# Altium footprint library PCB Footprints.PcbLib: 316 footprints (part 20 of 21)
Each footprint in its own frame and in the unit in brackets; x right, y up, seen from the top. Pads: shape width x height; smd on the part's side, far side on the other; paste and mask are expansions set on the pad; w line width, h text height; cw(c..) or ccw(c..) is an arc to the next point about the centre after c.
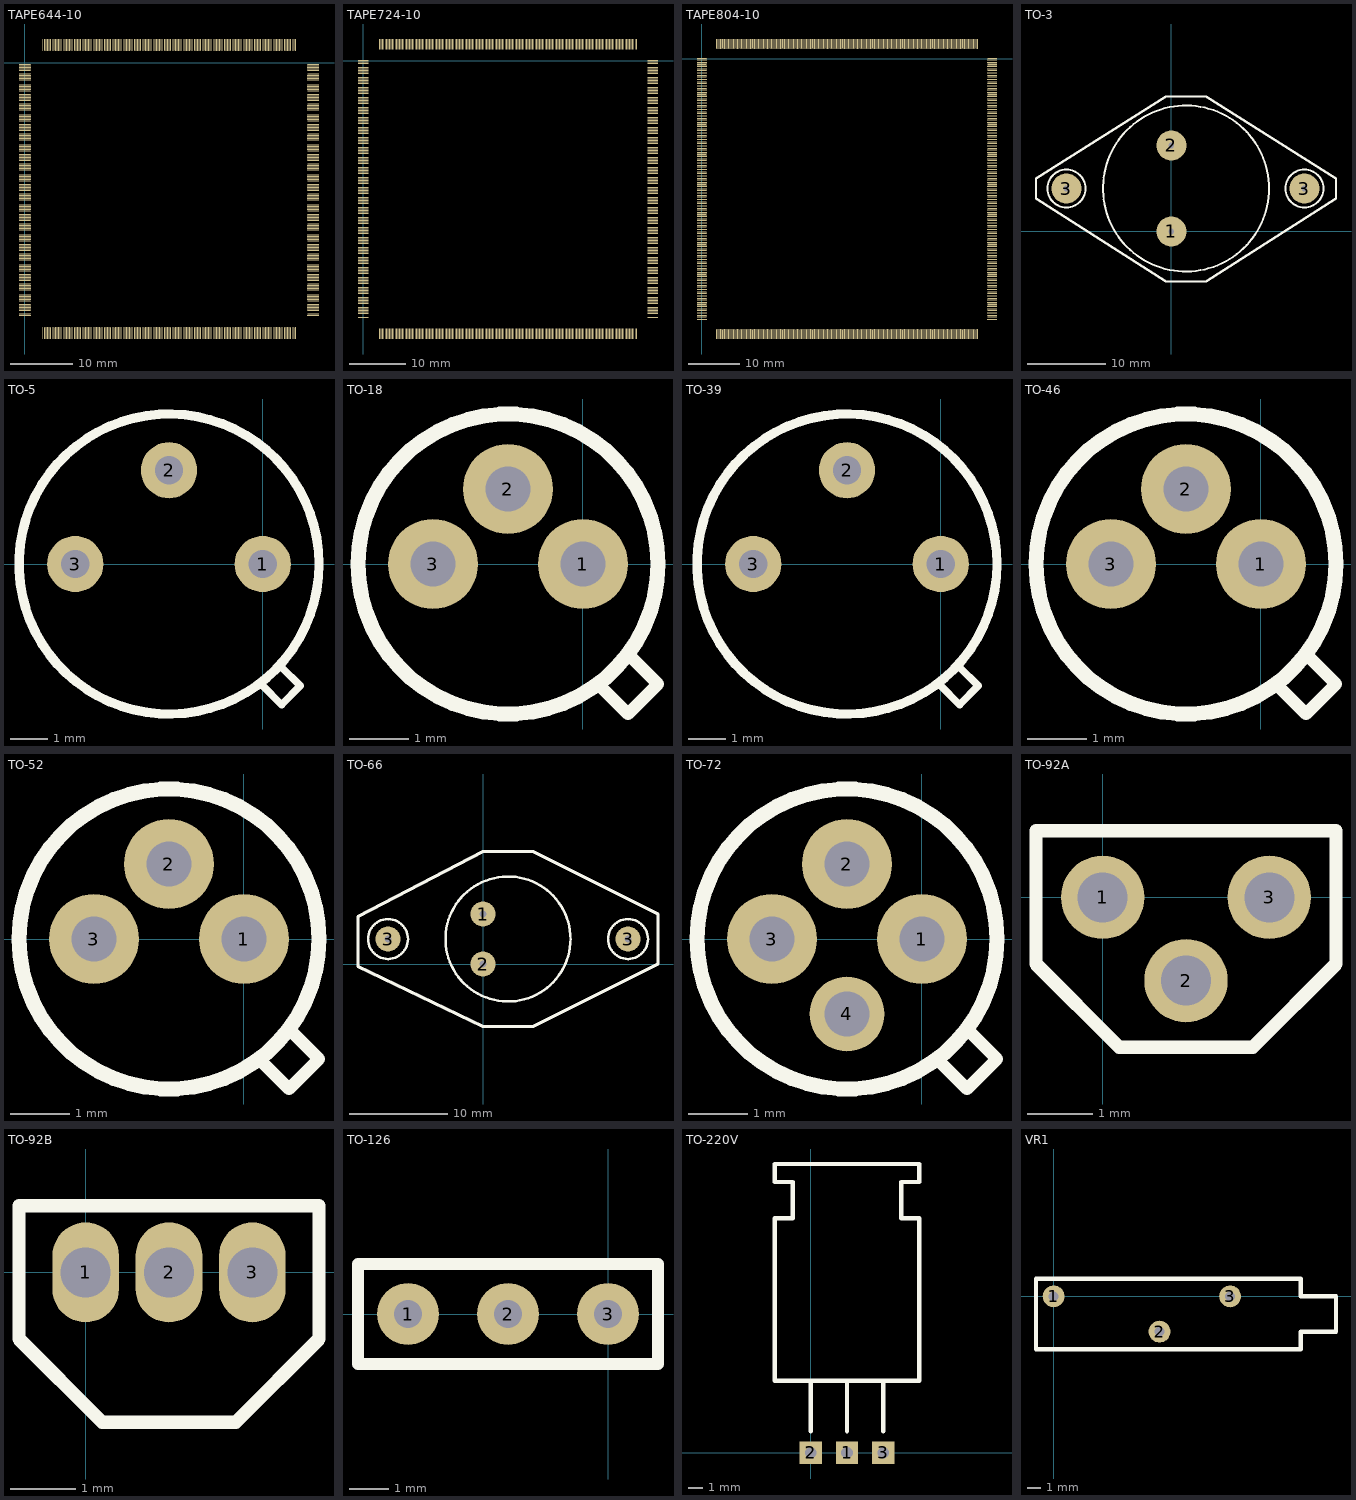
[diagram p19: the footprints below, top view; thin cyan lines are the x and y axes]

## TAPE644-10 [mil]
pads (644):
  oval 75x5 smd: 1(0,0) 2(0,-10) 3(0,-20) 4(0,-30) 5(0,-40) 6(0,-50) 7(0,-60) 8(0,-70) 9(0,-80) 10(0,-90) 11(0,-100) 12(0,-110) 13(0,-120) 14(0,-130) 15(0,-140) 16(0,-150) 17(0,-160) 18(0,-170) 19(0,-180) 20(0,-190) 21(0,-200) 22(0,-210) 23(0,-220) 24(0,-230) 25(0,-240) 26(0,-250) 27(0,-260) 28(0,-270) 29(0,-280) 30(0,-290) 31(0,-300) 32(0,-310) 33(0,-320) 34(0,-330) 35(0,-340) 36(0,-350) 37(0,-360) 38(0,-370) 39(0,-380) 40(0,-390) 41(0,-400) 42(0,-410) 43(0,-420) 44(0,-430) 45(0,-440) 46(0,-450) 47(0,-460) 48(0,-470) 49(0,-480) 50(0,-490) 51(0,-500) 52(0,-510) 53(0,-520) 54(0,-530) 55(0,-540) 56(0,-550) 57(0,-560) 58(0,-570) 59(0,-580) 60(0,-590) 61(0,-600) 62(0,-610) 63(0,-620) 64(0,-630) 65(0,-640) 66(0,-650) 67(0,-660) 68(0,-670) 69(0,-680) 70(0,-690) 71(0,-700) 72(0,-710) 73(0,-720) 74(0,-730) 75(0,-740) 76(0,-750) 77(0,-760) 78(0,-770) 79(0,-780) 80(0,-790) 81(0,-800) 82(0,-810) 83(0,-820) 84(0,-830) 85(0,-840) 86(0,-850) 87(0,-860) 88(0,-870) 89(0,-880) 90(0,-890) 91(0,-900) 92(0,-910) 93(0,-920) 94(0,-930) 95(0,-940) 96(0,-950) 97(0,-960) 98(0,-970) 99(0,-980) 100(0,-990) 101(0,-1000) 102(0,-1010) 103(0,-1020) 104(0,-1030) 105(0,-1040) 106(0,-1050) 107(0,-1060) 108(0,-1070) 109(0,-1080) 110(0,-1090) 111(0,-1100) 112(0,-1110) 113(0,-1120) 114(0,-1130) 115(0,-1140) 116(0,-1150) 117(0,-1160) 118(0,-1170) 119(0,-1180) 120(0,-1190) 121(0,-1200) 122(0,-1210) 123(0,-1220) 124(0,-1230) 125(0,-1240) 126(0,-1250) 127(0,-1260) 128(0,-1270) 129(0,-1280) 130(0,-1290) 131(0,-1300) 132(0,-1310) 133(0,-1320) 134(0,-1330) 135(0,-1340) 136(0,-1350) 137(0,-1360) 138(0,-1370) 139(0,-1380) 140(0,-1390) 141(0,-1400) 142(0,-1410) 143(0,-1420) 144(0,-1430) 145(0,-1440) 146(0,-1450) 147(0,-1460) 148(0,-1470) 149(0,-1480) 150(0,-1490) 151(0,-1500) 152(0,-1510) 153(0,-1520) 154(0,-1530) 155(0,-1540) 156(0,-1550) 157(0,-1560) 158(0,-1570) 159(0,-1580) 160(0,-1590) 161(0,-1600) 323(1825,-1600) 324(1825,-1590) 325(1825,-1580) 326(1825,-1570) 327(1825,-1560) 328(1825,-1550) 329(1825,-1540) 330(1825,-1530) 331(1825,-1520) 332(1825,-1510) 333(1825,-1500) 334(1825,-1490) 335(1825,-1480) 336(1825,-1470) 337(1825,-1460) 338(1825,-1450) 339(1825,-1440) 340(1825,-1430) 341(1825,-1420) 342(1825,-1410) 343(1825,-1400) 344(1825,-1390) 345(1825,-1380) 346(1825,-1370) 347(1825,-1360) 348(1825,-1350) 349(1825,-1340) 350(1825,-1330) 351(1825,-1320) 352(1825,-1310) 353(1825,-1300) 354(1825,-1290) 355(1825,-1280) 356(1825,-1270) 357(1825,-1260) 358(1825,-1250) 359(1825,-1240) 360(1825,-1230) 361(1825,-1220) 362(1825,-1210) 363(1825,-1200) 364(1825,-1190) 365(1825,-1180) 366(1825,-1170) 367(1825,-1160) 368(1825,-1150) 369(1825,-1140) 370(1825,-1130) 371(1825,-1120) 372(1825,-1110) 373(1825,-1100) 374(1825,-1090) 375(1825,-1080) 376(1825,-1070) 377(1825,-1060) 378(1825,-1050) 379(1825,-1040) 380(1825,-1030) 381(1825,-1020) 382(1825,-1010) 383(1825,-1000) 384(1825,-990) 385(1825,-980) 386(1825,-970) 387(1825,-960) 388(1825,-950) 389(1825,-940) 390(1825,-930) 391(1825,-920) 392(1825,-910) 393(1825,-900) 394(1825,-890) 395(1825,-880) 396(1825,-870) 397(1825,-860) 398(1825,-850) 399(1825,-840) 400(1825,-830) 401(1825,-820) 402(1825,-810) 403(1825,-800) 404(1825,-790) 405(1825,-780) 406(1825,-770) 407(1825,-760) 408(1825,-750) 409(1825,-740) 410(1825,-730) 411(1825,-720) 412(1825,-710) 413(1825,-700) 414(1825,-690) 415(1825,-680) 416(1825,-670) 417(1825,-660) 418(1825,-650) 419(1825,-640) 420(1825,-630) 421(1825,-620) 422(1825,-610) 423(1825,-600) 424(1825,-590) 425(1825,-580) 426(1825,-570) 427(1825,-560) 428(1825,-550) 429(1825,-540) 430(1825,-530) 431(1825,-520) 432(1825,-510) 433(1825,-500) 434(1825,-490) 435(1825,-480) 436(1825,-470) 437(1825,-460) 438(1825,-450) 439(1825,-440) 440(1825,-430) 441(1825,-420) 442(1825,-410) 443(1825,-400) 444(1825,-390) 445(1825,-380) 446(1825,-370) 447(1825,-360) 448(1825,-350) 449(1825,-340) 450(1825,-330) 451(1825,-320) 452(1825,-310) 453(1825,-300) 454(1825,-290) 455(1825,-280) 456(1825,-270) 457(1825,-260) 458(1825,-250) 459(1825,-240) 460(1825,-230) 461(1825,-220) 462(1825,-210) 463(1825,-200) 464(1825,-190) 465(1825,-180) 466(1825,-170) 467(1825,-160) 468(1825,-150) 469(1825,-140) 470(1825,-130) 471(1825,-120) 472(1825,-110) 473(1825,-100) 474(1825,-90) 475(1825,-80) 476(1825,-70) 477(1825,-60) 478(1825,-50) 479(1825,-40) 480(1825,-30) 481(1825,-20) 482(1825,-10) 483(1825,0)
  oval 5x75 smd: 162(113,-1712) 163(123,-1712) 164(133,-1712) 165(143,-1712) 166(153,-1712) 167(163,-1712) 168(173,-1712) 169(183,-1712) 170(193,-1712) 171(203,-1712) 172(213,-1712) 173(223,-1712) 174(233,-1712) 175(243,-1712) 176(253,-1712) 177(263,-1712) 178(273,-1712) 179(283,-1712) 180(293,-1712) 181(303,-1712) 182(313,-1712) 183(323,-1712) 184(333,-1712) 185(343,-1712) 186(353,-1712) 187(363,-1712) 188(373,-1712) 189(383,-1712) 190(393,-1712) 191(403,-1712) 192(413,-1712) 193(423,-1712) 194(433,-1712) 195(443,-1712) 196(453,-1712) 197(463,-1712) 198(473,-1712) 199(483,-1712) 200(493,-1712) 201(503,-1712) 202(513,-1712) 203(523,-1712) 204(533,-1712) 205(543,-1712) 206(553,-1712) 207(563,-1712) 208(573,-1712) 209(583,-1712) 210(593,-1712) 211(603,-1712) 212(613,-1712) 213(623,-1712) 214(633,-1712) 215(643,-1712) 216(653,-1712) 217(663,-1712) 218(673,-1712) 219(683,-1712) 220(693,-1712) 221(703,-1712) 222(713,-1712) 223(723,-1712) 224(733,-1712) 225(743,-1712) 226(753,-1712) 227(763,-1712) 228(773,-1712) 229(783,-1712) 230(793,-1712) 231(803,-1712) 232(813,-1712) 233(823,-1712) 234(833,-1712) 235(843,-1712) 236(853,-1712) 237(863,-1712) 238(873,-1712) 239(883,-1712) 240(893,-1712) 241(903,-1712) 242(913,-1712) 243(923,-1712) 244(933,-1712) 245(943,-1712) 246(953,-1712) 247(963,-1712) 248(973,-1712) 249(983,-1712) 250(993,-1712) 251(1003,-1712) 252(1013,-1712) 253(1023,-1712) 254(1033,-1712) 255(1043,-1712) 256(1053,-1712) 257(1063,-1712) 258(1073,-1712) 259(1083,-1712) 260(1093,-1712) 261(1103,-1712) 262(1113,-1712) 263(1123,-1712) 264(1133,-1712) 265(1143,-1712) 266(1153,-1712) 267(1163,-1712) 268(1173,-1712) 269(1183,-1712) 270(1193,-1712) 271(1203,-1712) 272(1213,-1712) 273(1223,-1712) 274(1233,-1712) 275(1243,-1712) 276(1253,-1712) 277(1263,-1712) 278(1273,-1712) 279(1283,-1712) 280(1293,-1712) 281(1303,-1712) 282(1313,-1712) 283(1323,-1712) 284(1333,-1712) 285(1343,-1712) 286(1353,-1712) 287(1363,-1712) 288(1373,-1712) 289(1383,-1712) 290(1393,-1712) 291(1403,-1712) 292(1413,-1712) 293(1423,-1712) 294(1433,-1712) 295(1443,-1712) 296(1453,-1712) 297(1463,-1712) 298(1473,-1712) 299(1483,-1712) 300(1493,-1712) 301(1503,-1712) 302(1513,-1712) 303(1523,-1712) 304(1533,-1712) 305(1543,-1712) 306(1553,-1712) 307(1563,-1712) 308(1573,-1712) 309(1583,-1712) 310(1593,-1712) 311(1603,-1712) 312(1613,-1712) 313(1623,-1712) 314(1633,-1712) 315(1643,-1712) 316(1653,-1712) 317(1663,-1712) 318(1673,-1712) 319(1683,-1712) 320(1693,-1712) 321(1703,-1712) 322(1713,-1712) 484(1713,113) 485(1703,113) 486(1693,113) 487(1683,113) 488(1673,113) 489(1663,113) 490(1653,113) 491(1643,113) 492(1633,113) 493(1623,113) 494(1613,113) 495(1603,113) 496(1593,113) 497(1583,113) 498(1573,113) 499(1563,113) 500(1553,113) 501(1543,113) 502(1533,113) 503(1523,113) 504(1513,113) 505(1503,113) 506(1493,113) 507(1483,113) 508(1473,113) 509(1463,113) 510(1453,113) 511(1443,113) 512(1433,113) 513(1423,113) 514(1413,113) 515(1403,113) 516(1393,113) 517(1383,113) 518(1373,113) 519(1363,113) 520(1353,113) 521(1343,113) 522(1333,113) 523(1323,113) 524(1313,113) 525(1303,113) 526(1293,113) 527(1283,113) 528(1273,113) 529(1263,113) 530(1253,113) 531(1243,113) 532(1233,113) 533(1223,113) 534(1213,113) 535(1203,113) 536(1193,113) 537(1183,113) 538(1173,113) 539(1163,113) 540(1153,113) 541(1143,113) 542(1133,113) 543(1123,113) 544(1113,113) 545(1103,113) 546(1093,113) 547(1083,113) 548(1073,113) 549(1063,113) 550(1053,113) 551(1043,113) 552(1033,113) 553(1023,113) 554(1013,113) 555(1003,113) 556(993,113) 557(983,113) 558(973,113) 559(963,113) 560(953,113) 561(943,113) 562(933,113) 563(923,113) 564(913,113) 565(903,113) 566(893,113) 567(883,113) 568(873,113) 569(863,113) 570(853,113) 571(843,113) 572(833,113) 573(823,113) 574(813,113) 575(803,113) 576(793,113) 577(783,113) 578(773,113) 579(763,113) 580(753,113) 581(743,113) 582(733,113) 583(723,113) 584(713,113) 585(703,113) 586(693,113) 587(683,113) 588(673,113) 589(663,113) 590(653,113) 591(643,113) 592(633,113) 593(623,113) 594(613,113) 595(603,113) 596(593,113) 597(583,113) 598(573,113) 599(563,113) 600(553,113) 601(543,113) 602(533,113) 603(523,113) 604(513,113) 605(503,113) 606(493,113) 607(483,113) 608(473,113) 609(463,113) 610(453,113) 611(443,113) 612(433,113) 613(423,113) 614(413,113) 615(403,113) 616(393,113) 617(383,113) 618(373,113) 619(363,113) 620(353,113) 621(343,113) 622(333,113) 623(323,113) 624(313,113) 625(303,113) 626(293,113) 627(283,113) 628(273,113) 629(263,113) 630(253,113) 631(243,113) 632(233,113) 633(223,113) 634(213,113) 635(203,113) 636(193,113) 637(183,113) 638(173,113) 639(163,113) 640(153,113) 641(143,113) 642(133,113) 643(123,113) 644(113,113)

## TAPE724-10 [mil]
pads (724):
  oval 75x5 smd: 1(0,0) 2(0,-10) 3(0,-20) 4(0,-30) 5(0,-40) 6(0,-50) 7(0,-60) 8(0,-70) 9(0,-80) 10(0,-90) 11(0,-100) 12(0,-110) 13(0,-120) 14(0,-130) 15(0,-140) 16(0,-150) 17(0,-160) 18(0,-170) 19(0,-180) 20(0,-190) 21(0,-200) 22(0,-210) 23(0,-220) 24(0,-230) 25(0,-240) 26(0,-250) 27(0,-260) 28(0,-270) 29(0,-280) 30(0,-290) 31(0,-300) 32(0,-310) 33(0,-320) 34(0,-330) 35(0,-340) 36(0,-350) 37(0,-360) 38(0,-370) 39(0,-380) 40(0,-390) 41(0,-400) 42(0,-410) 43(0,-420) 44(0,-430) 45(0,-440) 46(0,-450) 47(0,-460) 48(0,-470) 49(0,-480) 50(0,-490) 51(0,-500) 52(0,-510) 53(0,-520) 54(0,-530) 55(0,-540) 56(0,-550) 57(0,-560) 58(0,-570) 59(0,-580) 60(0,-590) 61(0,-600) 62(0,-610) 63(0,-620) 64(0,-630) 65(0,-640) 66(0,-650) 67(0,-660) 68(0,-670) 69(0,-680) 70(0,-690) 71(0,-700) 72(0,-710) 73(0,-720) 74(0,-730) 75(0,-740) 76(0,-750) 77(0,-760) 78(0,-770) 79(0,-780) 80(0,-790) 81(0,-800) 82(0,-810) 83(0,-820) 84(0,-830) 85(0,-840) 86(0,-850) 87(0,-860) 88(0,-870) 89(0,-880) 90(0,-890) 91(0,-900) 92(0,-910) 93(0,-920) 94(0,-930) 95(0,-940) 96(0,-950) 97(0,-960) 98(0,-970) 99(0,-980) 100(0,-990) 101(0,-1000) 102(0,-1010) 103(0,-1020) 104(0,-1030) 105(0,-1040) 106(0,-1050) 107(0,-1060) 108(0,-1070) 109(0,-1080) 110(0,-1090) 111(0,-1100) 112(0,-1110) 113(0,-1120) 114(0,-1130) 115(0,-1140) 116(0,-1150) 117(0,-1160) 118(0,-1170) 119(0,-1180) 120(0,-1190) 121(0,-1200) 122(0,-1210) 123(0,-1220) 124(0,-1230) 125(0,-1240) 126(0,-1250) 127(0,-1260) 128(0,-1270) 129(0,-1280) 130(0,-1290) 131(0,-1300) 132(0,-1310) 133(0,-1320) 134(0,-1330) 135(0,-1340) 136(0,-1350) 137(0,-1360) 138(0,-1370) 139(0,-1380) 140(0,-1390) 141(0,-1400) 142(0,-1410) 143(0,-1420) 144(0,-1430) 145(0,-1440) 146(0,-1450) 147(0,-1460) 148(0,-1470) 149(0,-1480) 150(0,-1490) 151(0,-1500) 152(0,-1510) 153(0,-1520) 154(0,-1530) 155(0,-1540) 156(0,-1550) 157(0,-1560) 158(0,-1570) 159(0,-1580) 160(0,-1590) 161(0,-1600) 162(0,-1610) 163(0,-1620) 164(0,-1630) 165(0,-1640) 166(0,-1650) 167(0,-1660) 168(0,-1670) 169(0,-1680) 170(0,-1690) 171(0,-1700) 172(0,-1710) 173(0,-1720) 174(0,-1730) 175(0,-1740) 176(0,-1750) 177(0,-1760) 178(0,-1770) 179(0,-1780) 180(0,-1790) 181(0,-1800) 363(2025,-1800) 364(2025,-1790) 365(2025,-1780) 366(2025,-1770) 367(2025,-1760) 368(2025,-1750) 369(2025,-1740) 370(2025,-1730) 371(2025,-1720) 372(2025,-1710) 373(2025,-1700) 374(2025,-1690) 375(2025,-1680) 376(2025,-1670) 377(2025,-1660) 378(2025,-1650) 379(2025,-1640) 380(2025,-1630) 381(2025,-1620) 382(2025,-1610) 383(2025,-1600) 384(2025,-1590) 385(2025,-1580) 386(2025,-1570) 387(2025,-1560) 388(2025,-1550) 389(2025,-1540) 390(2025,-1530) 391(2025,-1520) 392(2025,-1510) 393(2025,-1500) 394(2025,-1490) 395(2025,-1480) 396(2025,-1470) 397(2025,-1460) 398(2025,-1450) 399(2025,-1440) 400(2025,-1430) 401(2025,-1420) 402(2025,-1410) 403(2025,-1400) 404(2025,-1390) 405(2025,-1380) 406(2025,-1370) 407(2025,-1360) 408(2025,-1350) 409(2025,-1340) 410(2025,-1330) 411(2025,-1320) 412(2025,-1310) 413(2025,-1300) 414(2025,-1290) 415(2025,-1280) 416(2025,-1270) 417(2025,-1260) 418(2025,-1250) 419(2025,-1240) 420(2025,-1230) 421(2025,-1220) 422(2025,-1210) 423(2025,-1200) 424(2025,-1190) 425(2025,-1180) 426(2025,-1170) 427(2025,-1160) 428(2025,-1150) 429(2025,-1140) 430(2025,-1130) 431(2025,-1120) 432(2025,-1110) 433(2025,-1100) 434(2025,-1090) 435(2025,-1080) 436(2025,-1070) 437(2025,-1060) 438(2025,-1050) 439(2025,-1040) 440(2025,-1030) 441(2025,-1020) 442(2025,-1010) 443(2025,-1000) 444(2025,-990) 445(2025,-980) 446(2025,-970) 447(2025,-960) 448(2025,-950) 449(2025,-940) 450(2025,-930) 451(2025,-920) 452(2025,-910) 453(2025,-900) 454(2025,-890) 455(2025,-880) 456(2025,-870) 457(2025,-860) 458(2025,-850) 459(2025,-840) 460(2025,-830) 461(2025,-820) 462(2025,-810) 463(2025,-800) 464(2025,-790) 465(2025,-780) 466(2025,-770) 467(2025,-760) 468(2025,-750) 469(2025,-740) 470(2025,-730) 471(2025,-720) 472(2025,-710) 473(2025,-700) 474(2025,-690) 475(2025,-680) 476(2025,-670) 477(2025,-660) 478(2025,-650) 479(2025,-640) 480(2025,-630) 481(2025,-620) 482(2025,-610) 483(2025,-600) 484(2025,-590) 485(2025,-580) 486(2025,-570) 487(2025,-560) 488(2025,-550) 489(2025,-540) 490(2025,-530) 491(2025,-520) 492(2025,-510) 493(2025,-500) 494(2025,-490) 495(2025,-480) 496(2025,-470) 497(2025,-460) 498(2025,-450) 499(2025,-440) 500(2025,-430) 501(2025,-420) 502(2025,-410) 503(2025,-400) 504(2025,-390) 505(2025,-380) 506(2025,-370) 507(2025,-360) 508(2025,-350) 509(2025,-340) 510(2025,-330) 511(2025,-320) 512(2025,-310) 513(2025,-300) 514(2025,-290) 515(2025,-280) 516(2025,-270) 517(2025,-260) 518(2025,-250) 519(2025,-240) 520(2025,-230) 521(2025,-220) 522(2025,-210) 523(2025,-200) 524(2025,-190) 525(2025,-180) 526(2025,-170) 527(2025,-160) 528(2025,-150) 529(2025,-140) 530(2025,-130) 531(2025,-120) 532(2025,-110) 533(2025,-100) 534(2025,-90) 535(2025,-80) 536(2025,-70) 537(2025,-60) 538(2025,-50) 539(2025,-40) 540(2025,-30) 541(2025,-20) 542(2025,-10) 543(2025,0)
  oval 5x75 smd: 182(113,-1912) 183(123,-1912) 184(133,-1912) 185(143,-1912) 186(153,-1912) 187(163,-1912) 188(173,-1912) 189(183,-1912) 190(193,-1912) 191(203,-1912) 192(213,-1912) 193(223,-1912) 194(233,-1912) 195(243,-1912) 196(253,-1912) 197(263,-1912) 198(273,-1912) 199(283,-1912) 200(293,-1912) 201(303,-1912) 202(313,-1912) 203(323,-1912) 204(333,-1912) 205(343,-1912) 206(353,-1912) 207(363,-1912) 208(373,-1912) 209(383,-1912) 210(393,-1912) 211(403,-1912) 212(413,-1912) 213(423,-1912) 214(433,-1912) 215(443,-1912) 216(453,-1912) 217(463,-1912) 218(473,-1912) 219(483,-1912) 220(493,-1912) 221(503,-1912) 222(513,-1912) 223(523,-1912) 224(533,-1912) 225(543,-1912) 226(553,-1912) 227(563,-1912) 228(573,-1912) 229(583,-1912) 230(593,-1912) 231(603,-1912) 232(613,-1912) 233(623,-1912) 234(633,-1912) 235(643,-1912) 236(653,-1912) 237(663,-1912) 238(673,-1912) 239(683,-1912) 240(693,-1912) 241(703,-1912) 242(713,-1912) 243(723,-1912) 244(733,-1912) 245(743,-1912) 246(753,-1912) 247(763,-1912) 248(773,-1912) 249(783,-1912) 250(793,-1912) 251(803,-1912) 252(813,-1912) 253(823,-1912) 254(833,-1912) 255(843,-1912) 256(853,-1912) 257(863,-1912) 258(873,-1912) 259(883,-1912) 260(893,-1912) 261(903,-1912) 262(913,-1912) 263(923,-1912) 264(933,-1912) 265(943,-1912) 266(953,-1912) 267(963,-1912) 268(973,-1912) 269(983,-1912) 270(993,-1912) 271(1003,-1912) 272(1013,-1912) 273(1023,-1912) 274(1033,-1912) 275(1043,-1912) 276(1053,-1912) 277(1063,-1912) 278(1073,-1912) 279(1083,-1912) 280(1093,-1912) 281(1103,-1912) 282(1113,-1912) 283(1123,-1912) 284(1133,-1912) 285(1143,-1912) 286(1153,-1912) 287(1163,-1912) 288(1173,-1912) 289(1183,-1912) 290(1193,-1912) 291(1203,-1912) 292(1213,-1912) 293(1223,-1912) 294(1233,-1912) 295(1243,-1912) 296(1253,-1912) 297(1263,-1912) 298(1273,-1912) 299(1283,-1912) 300(1293,-1912) 301(1303,-1912) 302(1313,-1912) 303(1323,-1912) 304(1333,-1912) 305(1343,-1912) 306(1353,-1912) 307(1363,-1912) 308(1373,-1912) 309(1383,-1912) 310(1393,-1912) 311(1403,-1912) 312(1413,-1912) 313(1423,-1912) 314(1433,-1912) 315(1443,-1912) 316(1453,-1912) 317(1463,-1912) 318(1473,-1912) 319(1483,-1912) 320(1493,-1912) 321(1503,-1912) 322(1513,-1912) 323(1523,-1912) 324(1533,-1912) 325(1543,-1912) 326(1553,-1912) 327(1563,-1912) 328(1573,-1912) 329(1583,-1912) 330(1593,-1912) 331(1603,-1912) 332(1613,-1912) 333(1623,-1912) 334(1633,-1912) 335(1643,-1912) 336(1653,-1912) 337(1663,-1912) 338(1673,-1912) 339(1683,-1912) 340(1693,-1912) 341(1703,-1912) 342(1713,-1912) 343(1723,-1912) 344(1733,-1912) 345(1743,-1912) 346(1753,-1912) 347(1763,-1912) 348(1773,-1912) 349(1783,-1912) 350(1793,-1912) 351(1803,-1912) 352(1813,-1912) 353(1823,-1912) 354(1833,-1912) 355(1843,-1912) 356(1853,-1912) 357(1863,-1912) 358(1873,-1912) 359(1883,-1912) 360(1893,-1912) 361(1903,-1912) 362(1913,-1912) 544(1913,113) 545(1903,113) 546(1893,113) 547(1883,113) 548(1873,113) 549(1863,113) 550(1853,113) 551(1843,113) 552(1833,113) 553(1823,113) 554(1813,113) 555(1803,113) 556(1793,113) 557(1783,113) 558(1773,113) 559(1763,113) 560(1753,113) 561(1743,113) 562(1733,113) 563(1723,113) 564(1713,113) 565(1703,113) 566(1693,113) 567(1683,113) 568(1673,113) 569(1663,113) 570(1653,113) 571(1643,113) 572(1633,113) 573(1623,113) 574(1613,113) 575(1603,113) 576(1593,113) 577(1583,113) 578(1573,113) 579(1563,113) 580(1553,113) 581(1543,113) 582(1533,113) 583(1523,113) 584(1513,113) 585(1503,113) 586(1493,113) 587(1483,113) 588(1473,113) 589(1463,113) 590(1453,113) 591(1443,113) 592(1433,113) 593(1423,113) 594(1413,113) 595(1403,113) 596(1393,113) 597(1383,113) 598(1373,113) 599(1363,113) 600(1353,113) 601(1343,113) 602(1333,113) 603(1323,113) 604(1313,113) 605(1303,113) 606(1293,113) 607(1283,113) 608(1273,113) 609(1263,113) 610(1253,113) 611(1243,113) 612(1233,113) 613(1223,113) 614(1213,113) 615(1203,113) 616(1193,113) 617(1183,113) 618(1173,113) 619(1163,113) 620(1153,113) 621(1143,113) 622(1133,113) 623(1123,113) 624(1113,113) 625(1103,113) 626(1093,113) 627(1083,113) 628(1073,113) 629(1063,113) 630(1053,113) 631(1043,113) 632(1033,113) 633(1023,113) 634(1013,113) 635(1003,113) 636(993,113) 637(983,113) 638(973,113) 639(963,113) 640(953,113) 641(943,113) 642(933,113) 643(923,113) 644(913,113) 645(903,113) 646(893,113) 647(883,113) 648(873,113) 649(863,113) 650(853,113) 651(843,113) 652(833,113) 653(823,113) 654(813,113) 655(803,113) 656(793,113) 657(783,113) 658(773,113) 659(763,113) 660(753,113) 661(743,113) 662(733,113) 663(723,113) 664(713,113) 665(703,113) 666(693,113) 667(683,113) 668(673,113) 669(663,113) 670(653,113) 671(643,113) 672(633,113) 673(623,113) 674(613,113) 675(603,113) 676(593,113) 677(583,113) 678(573,113) 679(563,113) 680(553,113) 681(543,113) 682(533,113) 683(523,113) 684(513,113) 685(503,113) 686(493,113) 687(483,113) 688(473,113) 689(463,113) 690(453,113) 691(443,113) 692(433,113) 693(423,113) 694(413,113) 695(403,113) 696(393,113) 697(383,113) 698(373,113) 699(363,113) 700(353,113) 701(343,113) 702(333,113) 703(323,113) 704(313,113) 705(303,113) 706(293,113) 707(283,113) 708(273,113) 709(263,113) 710(253,113) 711(243,113) 712(233,113) 713(223,113) 714(213,113) 715(203,113) 716(193,113) 717(183,113) 718(173,113) 719(163,113) 720(153,113) 721(143,113) 722(133,113) 723(123,113) 724(113,113)

## TAPE804-10 [mil]
pads (804):
  oval 75x5 smd: 1(0,0) 2(0,-10) 3(0,-20) 4(0,-30) 5(0,-40) 6(0,-50) 7(0,-60) 8(0,-70) 9(0,-80) 10(0,-90) 11(0,-100) 12(0,-110) 13(0,-120) 14(0,-130) 15(0,-140) 16(0,-150) 17(0,-160) 18(0,-170) 19(0,-180) 20(0,-190) 21(0,-200) 22(0,-210) 23(0,-220) 24(0,-230) 25(0,-240) 26(0,-250) 27(0,-260) 28(0,-270) 29(0,-280) 30(0,-290) 31(0,-300) 32(0,-310) 33(0,-320) 34(0,-330) 35(0,-340) 36(0,-350) 37(0,-360) 38(0,-370) 39(0,-380) 40(0,-390) 41(0,-400) 42(0,-410) 43(0,-420) 44(0,-430) 45(0,-440) 46(0,-450) 47(0,-460) 48(0,-470) 49(0,-480) 50(0,-490) 51(0,-500) 52(0,-510) 53(0,-520) 54(0,-530) 55(0,-540) 56(0,-550) 57(0,-560) 58(0,-570) 59(0,-580) 60(0,-590) 61(0,-600) 62(0,-610) 63(0,-620) 64(0,-630) 65(0,-640) 66(0,-650) 67(0,-660) 68(0,-670) 69(0,-680) 70(0,-690) 71(0,-700) 72(0,-710) 73(0,-720) 74(0,-730) 75(0,-740) 76(0,-750) 77(0,-760) 78(0,-770) 79(0,-780) 80(0,-790) 81(0,-800) 82(0,-810) 83(0,-820) 84(0,-830) 85(0,-840) 86(0,-850) 87(0,-860) 88(0,-870) 89(0,-880) 90(0,-890) 91(0,-900) 92(0,-910) 93(0,-920) 94(0,-930) 95(0,-940) 96(0,-950) 97(0,-960) 98(0,-970) 99(0,-980) 100(0,-990) 101(0,-1000) 102(0,-1010) 103(0,-1020) 104(0,-1030) 105(0,-1040) 106(0,-1050) 107(0,-1060) 108(0,-1070) 109(0,-1080) 110(0,-1090) 111(0,-1100) 112(0,-1110) 113(0,-1120) 114(0,-1130) 115(0,-1140) 116(0,-1150) 117(0,-1160) 118(0,-1170) 119(0,-1180) 120(0,-1190) 121(0,-1200) 122(0,-1210) 123(0,-1220) 124(0,-1230) 125(0,-1240) 126(0,-1250) 127(0,-1260) 128(0,-1270) 129(0,-1280) 130(0,-1290) 131(0,-1300) 132(0,-1310) 133(0,-1320) 134(0,-1330) 135(0,-1340) 136(0,-1350) 137(0,-1360) 138(0,-1370) 139(0,-1380) 140(0,-1390) 141(0,-1400) 142(0,-1410) 143(0,-1420) 144(0,-1430) 145(0,-1440) 146(0,-1450) 147(0,-1460) 148(0,-1470) 149(0,-1480) 150(0,-1490) 151(0,-1500) 152(0,-1510) 153(0,-1520) 154(0,-1530) 155(0,-1540) 156(0,-1550) 157(0,-1560) 158(0,-1570) 159(0,-1580) 160(0,-1590) 161(0,-1600) 162(0,-1610) 163(0,-1620) 164(0,-1630) 165(0,-1640) 166(0,-1650) 167(0,-1660) 168(0,-1670) 169(0,-1680) 170(0,-1690) 171(0,-1700) 172(0,-1710) 173(0,-1720) 174(0,-1730) 175(0,-1740) 176(0,-1750) 177(0,-1760) 178(0,-1770) 179(0,-1780) 180(0,-1790) 181(0,-1800) 182(0,-1810) 183(0,-1820) 184(0,-1830) 185(0,-1840) 186(0,-1850) 187(0,-1860) 188(0,-1870) 189(0,-1880) 190(0,-1890) 191(0,-1900) 192(0,-1910) 193(0,-1920) 194(0,-1930) 195(0,-1940) 196(0,-1950) 197(0,-1960) 198(0,-1970) 199(0,-1980) 200(0,-1990) 201(0,-2000) 403(2225,-2000) 404(2225,-1990) 405(2225,-1980) 406(2225,-1970) 407(2225,-1960) 408(2225,-1950) 409(2225,-1940) 410(2225,-1930) 411(2225,-1920) 412(2225,-1910) 413(2225,-1900) 414(2225,-1890) 415(2225,-1880) 416(2225,-1870) 417(2225,-1860) 418(2225,-1850) 419(2225,-1840) 420(2225,-1830) 421(2225,-1820) 422(2225,-1810) 423(2225,-1800) 424(2225,-1790) 425(2225,-1780) 426(2225,-1770) 427(2225,-1760) 428(2225,-1750) 429(2225,-1740) 430(2225,-1730) 431(2225,-1720) 432(2225,-1710) 433(2225,-1700) 434(2225,-1690) 435(2225,-1680) 436(2225,-1670) 437(2225,-1660) 438(2225,-1650) 439(2225,-1640) 440(2225,-1630) 441(2225,-1620) 442(2225,-1610) 443(2225,-1600) 444(2225,-1590) 445(2225,-1580) 446(2225,-1570) 447(2225,-1560) 448(2225,-1550) 449(2225,-1540) 450(2225,-1530) 451(2225,-1520) 452(2225,-1510) 453(2225,-1500) 454(2225,-1490) 455(2225,-1480) 456(2225,-1470) 457(2225,-1460) 458(2225,-1450) 459(2225,-1440) 460(2225,-1430) 461(2225,-1420) 462(2225,-1410) 463(2225,-1400) 464(2225,-1390) 465(2225,-1380) 466(2225,-1370) 467(2225,-1360) 468(2225,-1350) 469(2225,-1340) 470(2225,-1330) 471(2225,-1320) 472(2225,-1310) 473(2225,-1300) 474(2225,-1290) 475(2225,-1280) 476(2225,-1270) 477(2225,-1260) 478(2225,-1250) 479(2225,-1240) 480(2225,-1230) 481(2225,-1220) 482(2225,-1210) 483(2225,-1200) 484(2225,-1190) 485(2225,-1180) 486(2225,-1170) 487(2225,-1160) 488(2225,-1150) 489(2225,-1140) 490(2225,-1130) 491(2225,-1120) 492(2225,-1110) 493(2225,-1100) 494(2225,-1090) 495(2225,-1080) 496(2225,-1070) 497(2225,-1060) 498(2225,-1050) 499(2225,-1040) 500(2225,-1030) 501(2225,-1020) 502(2225,-1010) 503(2225,-1000) 504(2225,-990) 505(2225,-980) 506(2225,-970) 507(2225,-960) 508(2225,-950) 509(2225,-940) 510(2225,-930) 511(2225,-920) 512(2225,-910) 513(2225,-900) 514(2225,-890) 515(2225,-880) 516(2225,-870) 517(2225,-860) 518(2225,-850) 519(2225,-840) 520(2225,-830) 521(2225,-820) 522(2225,-810) 523(2225,-800) 524(2225,-790) 525(2225,-780) 526(2225,-770) 527(2225,-760) 528(2225,-750) 529(2225,-740) 530(2225,-730) 531(2225,-720) 532(2225,-710) 533(2225,-700) 534(2225,-690) 535(2225,-680) 536(2225,-670) 537(2225,-660) 538(2225,-650) 539(2225,-640) 540(2225,-630) 541(2225,-620) 542(2225,-610) 543(2225,-600) 544(2225,-590) 545(2225,-580) 546(2225,-570) 547(2225,-560) 548(2225,-550) 549(2225,-540) 550(2225,-530) 551(2225,-520) 552(2225,-510) 553(2225,-500) 554(2225,-490) 555(2225,-480) 556(2225,-470) 557(2225,-460) 558(2225,-450) 559(2225,-440) 560(2225,-430) 561(2225,-420) 562(2225,-410) 563(2225,-400) 564(2225,-390) 565(2225,-380) 566(2225,-370) 567(2225,-360) 568(2225,-350) 569(2225,-340) 570(2225,-330) 571(2225,-320) 572(2225,-310) 573(2225,-300) 574(2225,-290) 575(2225,-280) 576(2225,-270) 577(2225,-260) 578(2225,-250) 579(2225,-240) 580(2225,-230) 581(2225,-220) 582(2225,-210) 583(2225,-200) 584(2225,-190) 585(2225,-180) 586(2225,-170) 587(2225,-160) 588(2225,-150) 589(2225,-140) 590(2225,-130) 591(2225,-120) 592(2225,-110) 593(2225,-100) 594(2225,-90) 595(2225,-80) 596(2225,-70) 597(2225,-60) 598(2225,-50) 599(2225,-40) 600(2225,-30) 601(2225,-20) 602(2225,-10) 603(2225,0)
  oval 5x75 smd: 202(113,-2112) 203(123,-2112) 204(133,-2112) 205(143,-2112) 206(153,-2112) 207(163,-2112) 208(173,-2112) 209(183,-2112) 210(193,-2112) 211(203,-2112) 212(213,-2112) 213(223,-2112) 214(233,-2112) 215(243,-2112) 216(253,-2112) 217(263,-2112) 218(273,-2112) 219(283,-2112) 220(293,-2112) 221(303,-2112) 222(313,-2112) 223(323,-2112) 224(333,-2112) 225(343,-2112) 226(353,-2112) 227(363,-2112) 228(373,-2112) 229(383,-2112) 230(393,-2112) 231(403,-2112) 232(413,-2112) 233(423,-2112) 234(433,-2112) 235(443,-2112) 236(453,-2112) 237(463,-2112) 238(473,-2112) 239(483,-2112) 240(493,-2112) 241(503,-2112) 242(513,-2112) 243(523,-2112) 244(533,-2112) 245(543,-2112) 246(553,-2112) 247(563,-2112) 248(573,-2112) 249(583,-2112) 250(593,-2112) 251(603,-2112) 252(613,-2112) 253(623,-2112) 254(633,-2112) 255(643,-2112) 256(653,-2112) 257(663,-2112) 258(673,-2112) 259(683,-2112) 260(693,-2112) 261(703,-2112) 262(713,-2112) 263(723,-2112) 264(733,-2112) 265(743,-2112) 266(753,-2112) 267(763,-2112) 268(773,-2112) 269(783,-2112) 270(793,-2112) 271(803,-2112) 272(813,-2112) 273(823,-2112) 274(833,-2112) 275(843,-2112) 276(853,-2112) 277(863,-2112) 278(873,-2112) 279(883,-2112) 280(893,-2112) 281(903,-2112) 282(913,-2112) 283(923,-2112) 284(933,-2112) 285(943,-2112) 286(953,-2112) 287(963,-2112) 288(973,-2112) 289(983,-2112) 290(993,-2112) 291(1003,-2112) 292(1013,-2112) 293(1023,-2112) 294(1033,-2112) 295(1043,-2112) 296(1053,-2112) 297(1063,-2112) 298(1073,-2112) 299(1083,-2112) 300(1093,-2112) 301(1103,-2112) 302(1113,-2112) 303(1123,-2112) 304(1133,-2112) 305(1143,-2112) 306(1153,-2112) 307(1163,-2112) 308(1173,-2112) 309(1183,-2112) 310(1193,-2112) 311(1203,-2112) 312(1213,-2112) 313(1223,-2112) 314(1233,-2112) 315(1243,-2112) 316(1253,-2112) 317(1263,-2112) 318(1273,-2112) 319(1283,-2112) 320(1293,-2112) 321(1303,-2112) 322(1313,-2112) 323(1323,-2112) 324(1333,-2112) 325(1343,-2112) 326(1353,-2112) 327(1363,-2112) 328(1373,-2112) 329(1383,-2112) 330(1393,-2112) 331(1403,-2112) 332(1413,-2112) 333(1423,-2112) 334(1433,-2112) 335(1443,-2112) 336(1453,-2112) 337(1463,-2112) 338(1473,-2112) 339(1483,-2112) 340(1493,-2112) 341(1503,-2112) 342(1513,-2112) 343(1523,-2112) 344(1533,-2112) 345(1543,-2112) 346(1553,-2112) 347(1563,-2112) 348(1573,-2112) 349(1583,-2112) 350(1593,-2112) 351(1603,-2112) 352(1613,-2112) 353(1623,-2112) 354(1633,-2112) 355(1643,-2112) 356(1653,-2112) 357(1663,-2112) 358(1673,-2112) 359(1683,-2112) 360(1693,-2112) 361(1703,-2112) 362(1713,-2112) 363(1723,-2112) 364(1733,-2112) 365(1743,-2112) 366(1753,-2112) 367(1763,-2112) 368(1773,-2112) 369(1783,-2112) 370(1793,-2112) 371(1803,-2112) 372(1813,-2112) 373(1823,-2112) 374(1833,-2112) 375(1843,-2112) 376(1853,-2112) 377(1863,-2112) 378(1873,-2112) 379(1883,-2112) 380(1893,-2112) 381(1903,-2112) 382(1913,-2112) 383(1923,-2112) 384(1933,-2112) 385(1943,-2112) 386(1953,-2112) 387(1963,-2112) 388(1973,-2112) 389(1983,-2112) 390(1993,-2112) 391(2003,-2112) 392(2013,-2112) 393(2023,-2112) 394(2033,-2112) 395(2043,-2112) 396(2053,-2112) 397(2063,-2112) 398(2073,-2112) 399(2083,-2112) 400(2093,-2112) 401(2103,-2112) 402(2113,-2112) 604(2113,113) 605(2103,113) 606(2093,113) 607(2083,113) 608(2073,113) 609(2063,113) 610(2053,113) 611(2043,113) 612(2033,113) 613(2023,113) 614(2013,113) 615(2003,113) 616(1993,113) 617(1983,113) 618(1973,113) 619(1963,113) 620(1953,113) 621(1943,113) 622(1933,113) 623(1923,113) 624(1913,113) 625(1903,113) 626(1893,113) 627(1883,113) 628(1873,113) 629(1863,113) 630(1853,113) 631(1843,113) 632(1833,113) 633(1823,113) 634(1813,113) 635(1803,113) 636(1793,113) 637(1783,113) 638(1773,113) 639(1763,113) 640(1753,113) 641(1743,113) 642(1733,113) 643(1723,113) 644(1713,113) 645(1703,113) 646(1693,113) 647(1683,113) 648(1673,113) 649(1663,113) 650(1653,113) 651(1643,113) 652(1633,113) 653(1623,113) 654(1613,113) 655(1603,113) 656(1593,113) 657(1583,113) 658(1573,113) 659(1563,113) 660(1553,113) 661(1543,113) 662(1533,113) 663(1523,113) 664(1513,113) 665(1503,113) 666(1493,113) 667(1483,113) 668(1473,113) 669(1463,113) 670(1453,113) 671(1443,113) 672(1433,113) 673(1423,113) 674(1413,113) 675(1403,113) 676(1393,113) 677(1383,113) 678(1373,113) 679(1363,113) 680(1353,113) 681(1343,113) 682(1333,113) 683(1323,113) 684(1313,113) 685(1303,113) 686(1293,113) 687(1283,113) 688(1273,113) 689(1263,113) 690(1253,113) 691(1243,113) 692(1233,113) 693(1223,113) 694(1213,113) 695(1203,113) 696(1193,113) 697(1183,113) 698(1173,113) 699(1163,113) 700(1153,113) 701(1143,113) 702(1133,113) 703(1123,113) 704(1113,113) 705(1103,113) 706(1093,113) 707(1083,113) 708(1073,113) 709(1063,113) 710(1053,113) 711(1043,113) 712(1033,113) 713(1023,113) 714(1013,113) 715(1003,113) 716(993,113) 717(983,113) 718(973,113) 719(963,113) 720(953,113) 721(943,113) 722(933,113) 723(923,113) 724(913,113) 725(903,113) 726(893,113) 727(883,113) 728(873,113) 729(863,113) 730(853,113) 731(843,113) 732(833,113) 733(823,113) 734(813,113) 735(803,113) 736(793,113) 737(783,113) 738(773,113) 739(763,113) 740(753,113) 741(743,113) 742(733,113) 743(723,113) 744(713,113) 745(703,113) 746(693,113) 747(683,113) 748(673,113) 749(663,113) 750(653,113) 751(643,113) 752(633,113) 753(623,113) 754(613,113) 755(603,113) 756(593,113) 757(583,113) 758(573,113) 759(563,113) 760(553,113) 761(543,113) 762(533,113) 763(523,113) 764(513,113) 765(503,113) 766(493,113) 767(483,113) 768(473,113) 769(463,113) 770(453,113) 771(443,113) 772(433,113) 773(423,113) 774(413,113) 775(403,113) 776(393,113) 777(383,113) 778(373,113) 779(363,113) 780(353,113) 781(343,113) 782(333,113) 783(323,113) 784(313,113) 785(303,113) 786(293,113) 787(283,113) 788(273,113) 789(263,113) 790(253,113) 791(243,113) 792(233,113) 793(223,113) 794(213,113) 795(203,113) 796(193,113) 797(183,113) 798(173,113) 799(163,113) 800(153,113) 801(143,113) 802(133,113) 803(123,113) 804(113,113)

## TO-3 [mil]
pads (4):
  round 150 hole 28: 1(0,0) 2(0,430) 3(-525,215) 3(665,215)
TopOverlay:
  circle w10: c-525,215 r95
  circle w10: c665,215 r95
  circle w10: c73,215 r415
  lines w12: -677,165 -677,265 -27,675 173,675 823,265 823,165 173,-250 -27,-250 -677,165

## TO-5 [mil]
pads (3):
  round 60 hole 30: 1(0,0) 2(-100,100) 3(-200,0)
TopOverlay:
  circle w10: c-100,0 r160
  lines w8: 0,-130 20,-150 40,-130 20,-110

## TO-18 [mil]
pads (3):
  round 60 hole 30: 1(0,0) 2(-50,50) 3(-100,0)
TopOverlay:
  circle w10: c-50,0 r100
  lines w8: 10,-80 30,-100 50,-80 30,-60

## TO-39 [mil]
pads (3):
  round 60 hole 30: 1(0,0) 2(-100,100) 3(-200,0)
TopOverlay:
  circle w10: c-100,0 r160
  lines w8: 0,-130 20,-150 40,-130 20,-110

## TO-46 [mil]
pads (3):
  round 60 hole 30: 1(0,0) 2(-50,50) 3(-100,0)
TopOverlay:
  circle w10: c-50,0 r100
  lines w8: 10,-80 30,-100 50,-80 30,-60

## TO-52 [mil]
pads (3):
  round 60 hole 30: 1(0,0) 2(-50,50) 3(-100,0)
TopOverlay:
  circle w10: c-50,0 r100
  lines w8: 10,-80 30,-100 50,-80 30,-60

## TO-66 [mil]
pads (4):
  round 100 hole 28: 1(0,200) 2(0,0) 3(-380,100) 3(580,100)
TopOverlay:
  circle w10: c580,100 r80
  circle w10: c-380,100 r80
  circle w10: c100,100 r250
  lines w12: -500,-10 0,-250 200,-250 700,0 700,200 200,450 0,450 -500,190 -500,-10

## TO-72 [mil]
pads (4):
  round 60 hole 30: 1(0,0) 2(-50,50) 3(-100,0)
  round 50 hole 30: 4(-50,-50)
TopOverlay:
  circle w10: c-50,0 r100
  lines w8: 10,-80 30,-100 50,-80 30,-60

## TO-92A [mil]
pads (3):
  round 50 hole 30: 1(0,0) 2(50,-50) 3(100,0)
TopOverlay:
  lines w8: -40,-40 10,-90 90,-90 140,-40 140,40 -40,40 -40,-40

## TO-92B [mil]
pads (3):
  oval 40x60 hole 30: 1(0,0) 2(50,0) 3(100,0)
TopOverlay:
  lines w8: -40,-40 10,-90 90,-90 140,-40 140,40 -40,40 -40,-40

## TO-126 [mil]
pads (3):
  round 62 hole 28: 1(-200,0) 2(-100,0) 3(0,0)
TopOverlay:
  lines w12: -250,-50 -250,50 50,50 50,-50 -250,-50

## TO-220V [mil]
pads (3):
  rect 62x62 hole 32: 1(100,0) 2(0,0) 3(200,0)
TopOverlay:
  lines w12: 0,60 0,200 ; 100,60 100,200 ; 200,60 200,200 ; -100,200 -100,650 -50,650 -50,750 -100,750 -100,800 300,800 300,750 250,750 250,650 300,650 300,200 -100,200

## VR1 [mil]
pads (3):
  round 62 hole 28: 1(0,0) 2(300,-100) 3(500,0)
TopOverlay:
  lines w12: -50,-150 -50,50 700,50 700,0 800,0 800,-100 700,-100 700,-150 -50,-150